# EAGLE library part BQ27510DRZR-G2 (library PatternAgents-TI-Tiva)
System-Side Impedance Track Fuel Gauge
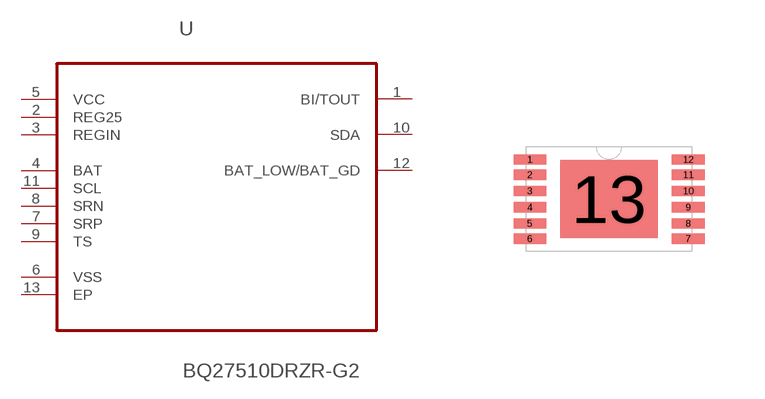
[diagram p9: symbol with the pads of SON40P400X250X100-13N; footprint SON40P400X250X100-13N]

Designator prefix U

## BQ27510DRZR-G2 (MPN: BQ27510DRZR-G2; OC_FARNELL: -; OC_NEWARK: 99R9912; PACKAGE: SON-12; SUPPLIER: Texas Instruments)  [SON40P400X250X100-13N]
1  BI/TOUT
2  REG25  pwr
3  REGIN  pwr
4  BAT  in
5  VCC  pwr
6  VSS  pwr
7  SRP  in
8  SRN  in
9  TS  in
10  SDA
11  SCL  in
12  BAT_LOW/BAT_GD  out
13  EP  pas

## Footprint SON40P400X250X100-13N (pad centres in mm)
smd 0.813 x 0.254: 1 -1.981,0.991; 2 -1.981,0.61; 3 -1.981,0.203; 4 -1.981,-0.203; 5 -1.981,-0.61; 6 -1.981,-0.991; 7 1.981,-0.991; 8 1.981,-0.61; 9 1.981,-0.203; 10 1.981,0.203; 11 1.981,0.61; 12 1.981,0.991
smd 2.438 x 1.956: 13 0,0